# EAGLE library part YAC512 (library 07-Retrocomputing)
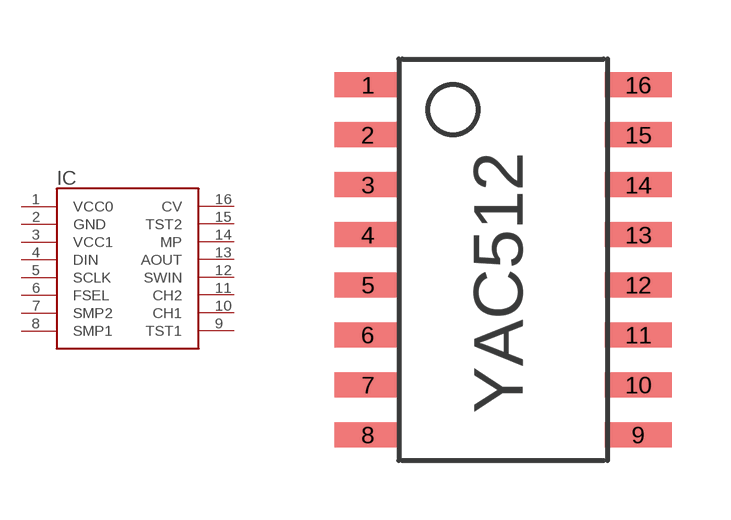
[diagram p17: symbol with the pads of YAC512; footprint YAC512]

Designator prefix IC

## YAC512  [YAC512]
1  VCC0
2  GND
3  VCC1
4  DIN
5  SCLK
6  FSEL
7  SMP2
8  SMP1
9  TST1
10  CH1
11  CH2
12  SWIN
13  AOUT
14  MP
15  TST2
16  CV

## Footprint YAC512 (pad centres in mm)
smd 1.7 x 0.635: 1 -3.435,4.445; 2 -3.435,3.175; 3 -3.435,1.905; 4 -3.435,0.635; 5 -3.435,-0.635; 6 -3.435,-1.905; 7 -3.435,-3.175; 8 -3.435,-4.445; 9 3.435,-4.445; 10 3.435,-3.175; 11 3.435,-1.905; 12 3.435,-0.635; 13 3.435,0.635; 14 3.435,1.905; 15 3.435,3.175; 16 3.435,4.445